# Altium schematic symbol library LCD.SchLib: 2 symbols
Pins are listed as number, name and electrical type; pins without a type are passive.

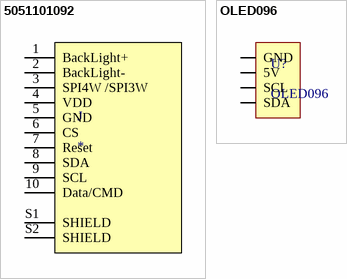
[diagram p0: symbols 5051101092 to OLED096]

## 5051101092
designator J
Écran LCD SPI / 3.3v et 20mA sur le backlight Max; Manufacturer Part Number 1: 5051101092; MF: Molex; Package: None; Value: *; Price: None; Availability: Unavailable; Link: https://www.crystalfontz.com/product/cfaf80160a00096tn-80x160-small-color-tft-display; Supplier Part Number 1: WM12366CT-ND
footprint MOLEX_5051101092
pins: 1 BackLight+, 2 BackLight-, 3 SPI4W /SPI3W, 4 VDD, 5 GND, 6 CS, 7 Reset, 8 SDA, 9 SCL, 10 Data/CMD, S1 SHIELD, S2 SHIELD

## OLED096
designator U?
OLED Display I2C 0.96in; Precision: 3%; Supplier 1: Amazon; Supplier Part Number 1: https://www.amazon.ca/-/fr/SSD1306-broches-Arduino-Raspberry-jaune-bleu-IIC/dp/B076PNP2VD/ref=sr_1_5?crid=2VV3LXPB89L69&keywords=i2c+oled&qid=1687918090&sprefix=%2Caps%2C88&sr=8-5; Value: N/A; Package / Case: 0603 (1608 Metric); Mounted: Yes
footprint OLED096
pins: 1 GND, 2 5V, 3 SCL, 4 SDA